# EAGLE library part 6253XX20621_62532620621 (library WR-BHD)
WR-BHD 2.00 mm Male SMT Box Header KIND PROPERTIES: Pitch 2 mm Gender:Male MATERIAL PROPERTIES: Insulator Material:PA9T Insulator Flammability Rating UL94 V-0 Insulator Color:Black Contact Material :Copper Alloy Contact Plating :Gold Contact Type: Stamped GENERAL INFORMATION: Operating Temperature:-40 °C up to +125 °C Compliance:RoHS Working Voltage: 250 V (AC) Withstanding Voltage:500 V (AC) Contact Resistance: 20 mΩ Insulation Resistance:1000 MΩ PACKAGING PROPERTIES Packaging :Tape and Reel with Cap <https://www.we-online.de/catalog/media/o32950v209%20Family_WR-BHD_6253xx20621.jpg> Details see: https://www.we-online.de/katalog/en/em/BHD_2_00_SMT_MALE_BOX_HEADER_6253XX20621 Updated by Yingchun,Shan 2019-11-04 2019 (C) Würth Elektronik
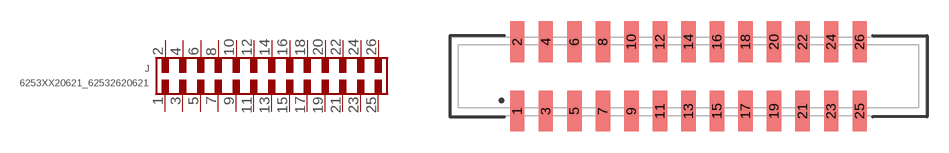
[diagram p157: symbol with the pads of 62532620621; footprint 62532620621]

Designator prefix J

## 6253XX20621_62532620621 (CONTACT-RESISTANCE: 20mOhm; DATASHEET-URL: https://www.we-online.com/redexpert/spec/62532620621?ae; GENDER: Male; IR: 2A; LENGTH: 33.25mm; MOUNT: SMT; PACKAGING: Tape and Reel with Cap; PART-NUMBER: 62532620621; PINS: 26; PITCH: 2mm; TYPE: Straight; VALUE: 62532620621; WORKING-VOLTAGE: 250V(AC))  [62532620621]
1  1  pas
2  2  pas
3  3  pas
4  4  pas
5  5  pas
6  6  pas
7  7  pas
8  8  pas
9  9  pas
10  10  pas
11  11  pas
12  12  pas
13  13  pas
14  14  pas
15  15  pas
16  16  pas
17  17  pas
18  18  pas
19  19  pas
20  20  pas
21  21  pas
22  22  pas
23  23  pas
24  24  pas
25  25  pas
26  26  pas

## Footprint 62532620621 (pad centres in mm)
WR-BHD 2.00 mm Male SMT Box Header,26 pins
smd 1 x 2.85: 1 -12,-2.425; 2 -12,2.425; 3 -10,-2.425; 4 -10,2.425; 5 -8,-2.425; 6 -8,2.425; 7 -6,-2.425; 8 -6,2.425; 9 -4,-2.425; 10 -4,2.425; 11 -2,-2.425; 12 -2,2.425; 13 0,-2.425; 14 0,2.425; 15 2,-2.425; 16 2,2.425; 17 4,-2.425; 18 4,2.425; 19 6,-2.425; 20 6,2.425; 21 8,-2.425; 22 8,2.425; 23 10,-2.425; 24 10,2.425; 25 12,-2.425; 26 12,2.425